# Altium footprint library MCU ICs.PcbLib: 12 footprints
Each footprint in its own frame and in the unit in brackets; x right, y up, seen from the top. Pads: shape width x height; smd on the part's side, far side on the other; paste and mask are expansions set on the pad; w line width, h text height; cw(c..) or ccw(c..) is an arc to the next point about the centre after c.
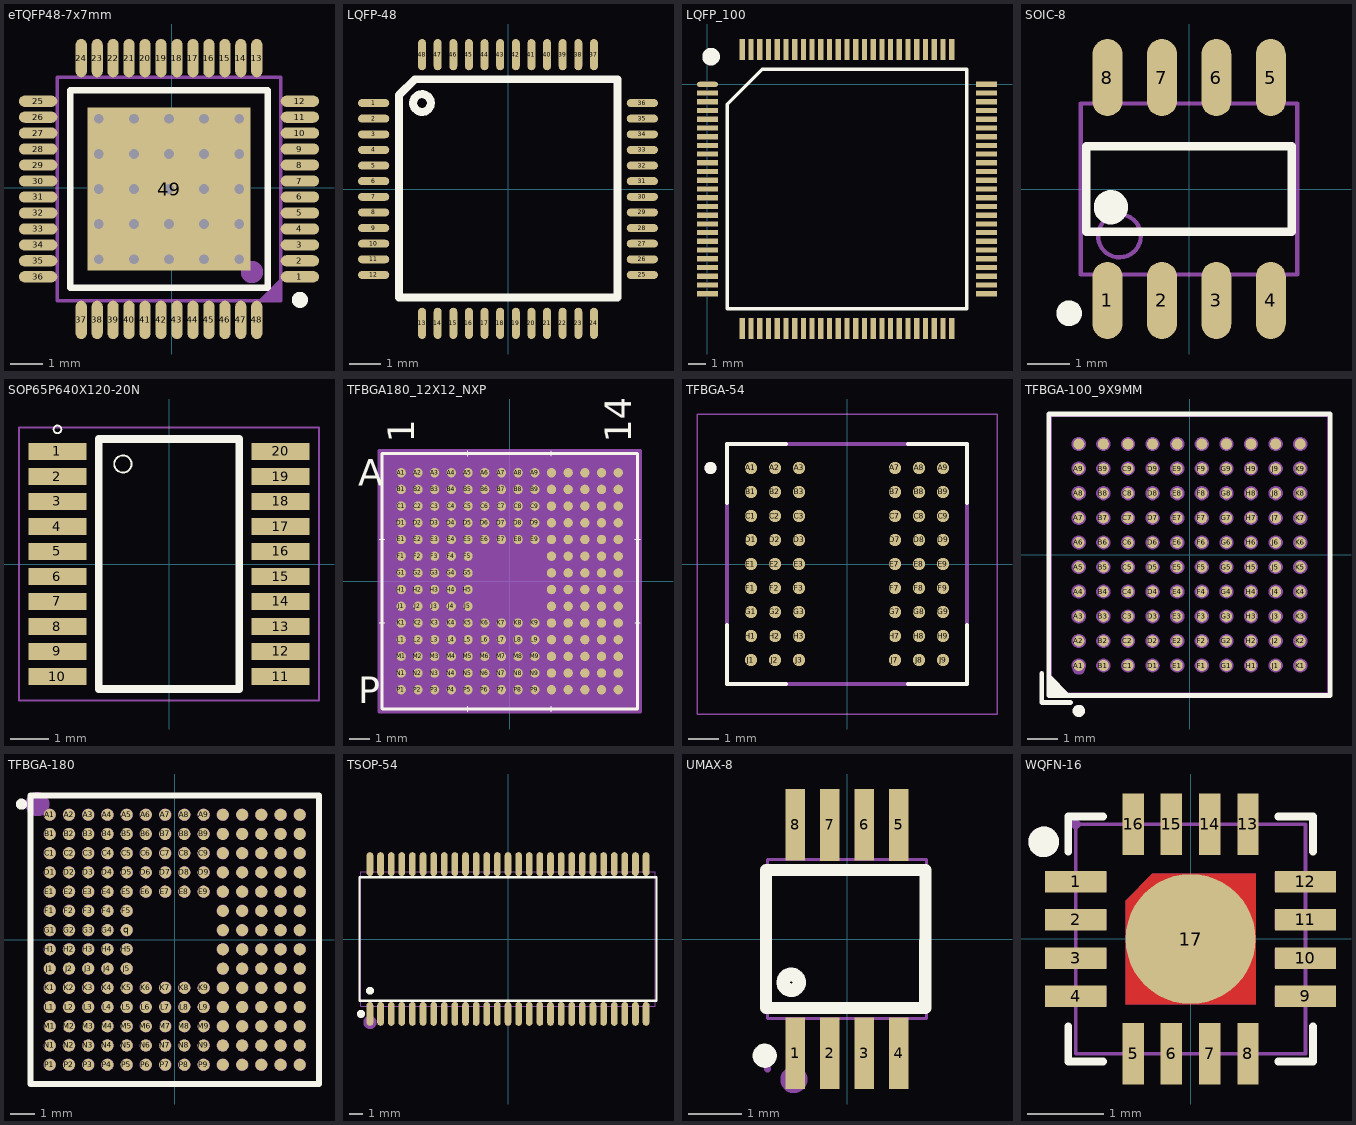
[diagram p0: the footprints below, top view; thin cyan lines are the x and y axes]

## eTQFP48-7x7mm [mm] "TSQFP, 48-Leads, Body 7,00x7,00mm, Pitch 0,50mm, Thermal Pad 5,10x5,10mm, IPC High Density"
height 1.2
pads (49):
  oval 1.2x0.35 smd mask+0.102: 1(4.016,-2.791) 2(4.016,-2.291) 3(4.016,-1.791) 4(4.016,-1.291) 5(4.016,-0.791) 6(4.016,-0.291) 7(4.016,0.209) 8(4.016,0.709) 9(4.016,1.209) 10(4.016,1.709) 11(4.016,2.209) 12(4.016,2.709) 25(-4.184,2.709) 26(-4.184,2.209) 27(-4.184,1.709) 28(-4.184,1.209) 29(-4.184,0.709) 30(-4.184,0.209) 31(-4.184,-0.291) 32(-4.184,-0.791) 33(-4.184,-1.291) 34(-4.184,-1.791) 35(-4.184,-2.291) 36(-4.184,-2.791)
  oval 0.35x1.2 smd mask+0.102: 13(2.666,4.059) 14(2.166,4.059) 15(1.666,4.059) 16(1.166,4.059) 17(0.666,4.059) 18(0.166,4.059) 19(-0.334,4.059) 20(-0.834,4.059) 21(-1.334,4.059) 22(-1.834,4.059) 23(-2.334,4.059) 24(-2.834,4.059) 37(-2.834,-4.141) 38(-2.334,-4.141) 39(-1.834,-4.141) 40(-1.334,-4.141) 41(-0.834,-4.141) 42(-0.334,-4.141) 43(0.166,-4.141) 44(0.666,-4.141) 45(1.166,-4.141) 46(1.666,-4.141) 47(2.166,-4.141) 48(2.666,-4.141)
  rect 5.1x5.1 smd: 49(-0.084,-0.041)
via -2.284,2.159 diameter 0.508 hole 0.305
via -1.184,2.159 diameter 0.508 hole 0.305
via -0.084,2.159 diameter 0.508 hole 0.305
via 1.016,2.159 diameter 0.508 hole 0.305
via 2.116,2.159 diameter 0.508 hole 0.305
via -2.284,1.059 diameter 0.508 hole 0.305
via -1.184,1.059 diameter 0.508 hole 0.305
via -0.084,1.059 diameter 0.508 hole 0.305
via 1.016,1.059 diameter 0.508 hole 0.305
via 2.116,1.059 diameter 0.508 hole 0.305
via -2.284,-0.041 diameter 0.508 hole 0.305
via -1.184,-0.041 diameter 0.508 hole 0.305
via -0.084,-0.041 diameter 0.508 hole 0.305
via 1.016,-0.041 diameter 0.508 hole 0.305
via 2.116,-0.041 diameter 0.508 hole 0.305
via -2.284,-1.141 diameter 0.508 hole 0.305
via -1.184,-1.141 diameter 0.508 hole 0.305
via -0.084,-1.141 diameter 0.508 hole 0.305
via 1.016,-1.141 diameter 0.508 hole 0.305
via 2.116,-1.141 diameter 0.508 hole 0.305
via -2.284,-2.241 diameter 0.508 hole 0.305
via -1.184,-2.241 diameter 0.508 hole 0.305
via -0.084,-2.241 diameter 0.508 hole 0.305
via 1.016,-2.241 diameter 0.508 hole 0.305
via 2.116,-2.241 diameter 0.508 hole 0.305
Top Overlay:
  circle w0.25: c4.016,-3.516 r0.125
  lines w0.2: -3.184,-3.141 3.016,-3.141 3.016,3.059 -3.184,3.059 -3.184,-3.141
Mechanical 29:
  circle w0.5: c2.516,-2.641 r0.1
  region: 2.71,-3.541 3.416,-2.835 3.416,-3.541
  lines w0.1: -3.584,-3.541 -3.584,3.459 3.416,3.459 3.416,-3.541 -3.584,-3.541
3D body "TSQFP50P900X900X120_HS-49L.step": height 1.2, standoff 0, extent -4.584,-4.541 4.416,4.459

## LQFP-48 [mm]
height 5.33
pads (48):
  oval 1x0.254 smd: 1(-4.3,2.75) 2(-4.3,2.25) 3(-4.3,1.75) 4(-4.3,1.25) 5(-4.3,0.75) 6(-4.3,0.25) 7(-4.3,-0.25) 8(-4.3,-0.75) 9(-4.3,-1.25) 10(-4.3,-1.75) 11(-4.3,-2.25) 12(-4.3,-2.75) 25(4.3,-2.75) 26(4.3,-2.25) 27(4.3,-1.75) 28(4.3,-1.25) 29(4.3,-0.75) 30(4.3,-0.25) 31(4.3,0.25) 32(4.3,0.75) 33(4.3,1.25) 34(4.3,1.75) 35(4.3,2.25) 36(4.3,2.75)
  oval 0.254x1 smd: 13(-2.75,-4.3) 14(-2.25,-4.3) 15(-1.75,-4.3) 16(-1.25,-4.3) 17(-0.75,-4.3) 18(-0.25,-4.3) 19(0.25,-4.3) 20(0.75,-4.3) 21(1.25,-4.3) 22(1.75,-4.3) 23(2.25,-4.3) 24(2.75,-4.3) 37(2.75,4.3) 38(2.25,4.3) 39(1.75,4.3) 40(1.25,4.3) 41(0.75,4.3) 42(0.25,4.3) 43(-0.25,4.3) 44(-0.75,4.3) 45(-1.25,4.3) 46(-1.75,4.3) 47(-2.25,4.3) 48(-2.75,4.3)
Top Overlay:
  circle w0.254: c-2.752,2.75 r0.284
  lines w0.254: -3.484,-3.473 3.501,-3.473 3.501,3.512 -2.976,3.512 -3.484,3.004 -3.484,-3.473
3D body "lqfp48.stp": height 1.5, standoff 0, extent -4.5,-4.489 4.5,4.511

## LQFP_100 [mm]
pads (100):
  oval 1.2x0.3 smd: 1(0,0)
  rect 1.2x0.3 smd: 2(0,-0.5) 3(0,-1) 4(0,-1.5) 5(0,-2) 6(0,-2.5) 7(0,-3) 8(0,-3.5) 9(0,-4) 10(0,-4.5) 11(0,-5) 12(0,-5.5) 13(0,-6) 14(0,-6.5) 15(0,-7) 16(0,-7.5) 17(0,-8) 18(0,-8.5) 19(0,-9) 20(0,-9.5) 21(0,-10) 22(0,-10.5) 23(0,-11) 24(0,-11.5) 25(0,-12) 51(16,-12) 52(16,-11.5) 53(16,-11) 54(16,-10.5) 55(16,-10) 56(16,-9.5) 57(16,-9) 58(16,-8.5) 59(16,-8) 60(16,-7.5) 61(16,-7) 62(16,-6.5) 63(16,-6) 64(16,-5.5) 65(16,-5) 66(16,-4.5) 67(16,-4) 68(16,-3.5) 69(16,-3) 70(16,-2.5) 71(16,-2) 72(16,-1.5) 73(16,-1) 74(16,-0.5) 75(16,0)
  rect 0.3x1.2 smd: 26(2,-14) 27(2.5,-14) 28(3,-14) 29(3.5,-14) 30(4,-14) 31(4.5,-14) 32(5,-14) 33(5.5,-14) 34(6,-14) 35(6.5,-14) 36(7,-14) 37(7.5,-14) 38(8,-14) 39(8.5,-14) 40(9,-14) 41(9.5,-14) 42(10,-14) 43(10.5,-14) 44(11,-14) 45(11.5,-14) 46(12,-14) 47(12.5,-14) 48(13,-14) 49(13.5,-14) 50(14,-14) 76(14,2) 77(13.5,2) 78(13,2) 79(12.5,2) 80(12,2) 81(11.5,2) 82(11,2) 83(10.5,2) 84(10,2) 85(9.5,2) 86(9,2) 87(8.5,2) 88(8,2) 89(7.5,2) 90(7,2) 91(6.5,2) 92(6,2) 93(5.5,2) 94(5,2) 95(4.5,2) 96(4,2) 97(3.5,2) 98(3,2) 99(2.5,2) 100(2,2)
Top Overlay:
  lines w0.2: 1.135,-12.865 14.865,-12.865 14.865,0.865 3.151,0.865 1.135,-1.151 1.135,-12.865
  lines w0.6: 0.025,1.676 ccw(c0.207,1.586) 0.031,1.686
3D body "LQFP100-14x14mm.step": height 1.6, standoff 0, extent 0.004,-13.966 15.998,2.028

## SOIC-8 [mm]
pads (8):
  oval 0.7x1.8 smd: 1(-1.905,-2.6) 2(-0.635,-2.6) 3(0.635,-2.6) 4(1.905,-2.6) 5(1.905,2.6) 6(0.635,2.6) 7(-0.635,2.6) 8(-1.905,2.6)
Top Overlay:
  circle w0.4: c-1.825,-0.425 r0.2
  circle w0.3: c-2.8,-2.9 r0.15
  lines w0.2: -2.4,-1 -2.4,1 2.4,1 2.4,-1 -2.4,-1
Mechanical 13:
  circle w0.1: c-1.625,-1.095 r0.5
  lines w0.1: -2.525,-1.995 -2.525,1.995 2.525,1.995 2.525,-1.995 -2.525,-1.995
3D body "SO-8N.STEP": height 1.62, standoff 0, extent -2.46,-3 2.46,3

## SOP65P640X120-20N [mm]
pads (20):
  rect 1.5x0.45 smd: 1(-2.9,2.925) 2(-2.9,2.275) 3(-2.9,1.625) 4(-2.9,0.975) 5(-2.9,0.325) 6(-2.9,-0.325) 7(-2.9,-0.975) 8(-2.9,-1.625) 9(-2.9,-2.275) 10(-2.9,-2.925) 11(2.9,-2.925) 12(2.9,-2.275) 13(2.9,-1.625) 14(2.9,-0.975) 15(2.9,-0.325) 16(2.9,0.325) 17(2.9,0.975) 18(2.9,1.625) 19(2.9,2.275) 20(2.9,2.925)
Top Overlay:
  circle w0.05: c-2.9,3.5 r0.1
  circle w0.05: c-1.2,2.6 r0.224
  circle w0.05: c-1.2,2.6 r0.224
  lines w0.2: -1.825,-3.25 -1.825,3.25 1.825,3.25 1.825,-3.25 -1.825,-3.25
Mechanical 15:
  lines w0.05: -3.9,-3.55 -3.9,3.55 3.9,3.55 3.9,-3.55 -3.9,-3.55
3D body "STM8S103F3P3.STEP": height 1.16, standoff -0.04, extent -3.327,-3.25 3.073,3.25

## TFBGA180_12X12_NXP [mm]
pads (180):
  round 0.45 smd paste-0.025 mask+0.013: A1(-5.2,5.2) A2(-4.4,5.2) A3(-3.6,5.2) A4(-2.8,5.2) A5(-2,5.2) A6(-1.2,5.2) A7(-0.4,5.2) A8(0.4,5.2) A9(1.2,5.2) A10(2,5.2) A11(2.8,5.2) A12(3.6,5.2) A13(4.4,5.2) A14(5.2,5.2) B1(-5.2,4.4) B2(-4.4,4.4) B3(-3.6,4.4) B4(-2.8,4.4) B5(-2,4.4) B6(-1.2,4.4) B7(-0.4,4.4) B8(0.4,4.4) B9(1.2,4.4) B10(2,4.4) B11(2.8,4.4) B12(3.6,4.4) B13(4.4,4.4) B14(5.2,4.4) C1(-5.2,3.6) C2(-4.4,3.6) C3(-3.6,3.6) C4(-2.8,3.6) C5(-2,3.6) C6(-1.2,3.6) C7(-0.4,3.6) C8(0.4,3.6) C9(1.2,3.6) C10(2,3.6) C11(2.8,3.6) C12(3.6,3.6) C13(4.4,3.6) C14(5.2,3.6) D1(-5.2,2.8) D2(-4.4,2.8) D3(-3.6,2.8) D4(-2.8,2.8) D5(-2,2.8) D6(-1.2,2.8) D7(-0.4,2.8) D8(0.4,2.8) D9(1.2,2.8) D10(2,2.8) D11(2.8,2.8) D12(3.6,2.8) D13(4.4,2.8) D14(5.2,2.8) E1(-5.2,2) E2(-4.4,2) E3(-3.6,2) E4(-2.8,2) E5(-2,2) E6(-1.2,2) E7(-0.4,2) E8(0.4,2) E9(1.2,2) E10(2,2) E11(2.8,2) E12(3.6,2) E13(4.4,2) E14(5.2,2) F1(-5.2,1.2) F2(-4.4,1.2) F3(-3.6,1.2) F4(-2.8,1.2) F5(-2,1.2) F10(2,1.2) F11(2.8,1.2) F12(3.6,1.2) F13(4.4,1.2) F14(5.2,1.2) G1(-5.2,0.4) G2(-4.4,0.4) G3(-3.6,0.4) G4(-2.8,0.4) G5(-2,0.4) G10(2,0.4) G11(2.8,0.4) G12(3.6,0.4) G13(4.4,0.4) G14(5.2,0.4) H1(-5.2,-0.4) H2(-4.4,-0.4) H3(-3.6,-0.4) H4(-2.8,-0.4) H5(-2,-0.4) H10(2,-0.4) H11(2.8,-0.4) H12(3.6,-0.4) H13(4.4,-0.4) H14(5.2,-0.4) J1(-5.2,-1.2) J2(-4.4,-1.2) J3(-3.6,-1.2) J4(-2.8,-1.2) J5(-2,-1.2) J10(2,-1.2) J11(2.8,-1.2) J12(3.6,-1.2) J13(4.4,-1.2) J14(5.2,-1.2) K1(-5.2,-2) K2(-4.4,-2) K3(-3.6,-2) K4(-2.8,-2) K5(-2,-2) K6(-1.2,-2) K7(-0.4,-2) K8(0.4,-2) K9(1.2,-2) K10(2,-2) K11(2.8,-2) K12(3.6,-2) K13(4.4,-2) K14(5.2,-2) L1(-5.2,-2.8) L2(-4.4,-2.8) L3(-3.6,-2.8) L4(-2.8,-2.8) L5(-2,-2.8) L6(-1.2,-2.8) L7(-0.4,-2.8) L8(0.4,-2.8) L9(1.2,-2.8) L10(2,-2.8) L11(2.8,-2.8) L12(3.6,-2.8) L13(4.4,-2.8) L14(5.2,-2.8) M1(-5.2,-3.6) M2(-4.4,-3.6) M3(-3.6,-3.6) M4(-2.8,-3.6) M5(-2,-3.6) M6(-1.2,-3.6) M7(-0.4,-3.6) M8(0.4,-3.6) M9(1.2,-3.6) M10(2,-3.6) M11(2.8,-3.6) M12(3.6,-3.6) M13(4.4,-3.6) M14(5.2,-3.6) N1(-5.2,-4.4) N2(-4.4,-4.4) N3(-3.6,-4.4) N4(-2.8,-4.4) N5(-2,-4.4) N6(-1.2,-4.4) N7(-0.4,-4.4) N8(0.4,-4.4) N9(1.2,-4.4) N10(2,-4.4) N11(2.8,-4.4) N12(3.6,-4.4) N13(4.4,-4.4) N14(5.2,-4.4) P1(-5.2,-5.2) P2(-4.4,-5.2) P3(-3.6,-5.2) P4(-2.8,-5.2) P5(-2,-5.2) P6(-1.2,-5.2) P7(-0.4,-5.2) P8(0.4,-5.2) P9(1.2,-5.2) P10(2,-5.2) P11(2.8,-5.2) P12(3.6,-5.2) P13(4.4,-5.2) P14(5.2,-5.2)
Top Overlay:
  lines w0.025: -6.254,-2 -6,-2 ; -6.254,2 -6,2 ; -2,-6.254 -2,-6 ; -2,6 -2,6.254 ; 2,-6.254 2,-6 ; 2,6 2,6.254 ; 6,-2 6.254,-2 ; 6,2 6.254,2
  lines w0.152: -6.127,-6.127 -6.127,6.127 6.127,6.127 6.127,-6.127 -6.127,-6.127
  text "14" at 5.835,6.635 h1.27
  text "1" at -4.565,6.635 h1.27
  text "P" at -7.27,-5.835 h1.27
  text "A" at -7.27,4.565 h1.27
Bottom Overlay:
  text "14" at 4.565,6.635 h1.27
  text "1" at -5.835,6.635 h1.27
  text "A" at -6.635,4.565 h1.27
  text "P" at -6.635,-5.835 h1.27
Mechanical 13:
  lines w0.025: -6,5.6 -5.6,6 ; -6,-6 -6,6 6,6 6,-6 -6,-6
  text "14" at 5.835,6.635 h1.27
  text "1" at -4.565,6.635 h1.27
  text "P" at -7.27,-5.835 h1.27
  text "A" at -7.27,4.565 h1.27
Mechanical 15:
  region: 6.254,-6.254 -6.254,-6.254 -6.254,6.254 6.254,6.254
  lines w0.152: -6.254,-6.254 6.254,-6.254 6.254,6.254 -6.254,6.254 -6.254,-6.254
3D body "TFBGA180_12X12_NXP.step": height 1.2, standoff 0, extent -6,-6 6,6

## TFBGA-54 [mm]
height 1.2
pads (54):
  round 0.41 smd: A1(-3.2,3.2) A2(-2.4,3.2) A3(-1.6,3.2) A7(1.6,3.2) A8(2.4,3.2) A9(3.2,3.2) B1(-3.2,2.4) B2(-2.4,2.4) B3(-1.6,2.4) B7(1.6,2.4) B8(2.4,2.4) B9(3.2,2.4) C1(-3.2,1.6) C2(-2.4,1.6) C3(-1.6,1.6) C7(1.6,1.6) C8(2.4,1.6) C9(3.2,1.6) D1(-3.2,0.8) D2(-2.4,0.8) D3(-1.6,0.8) D7(1.6,0.8) D8(2.4,0.8) D9(3.2,0.8) E1(-3.2,0) E2(-2.4,0) E3(-1.6,0) E7(1.6,0) E8(2.4,0) E9(3.2,0) F1(-3.2,-0.8) F2(-2.4,-0.8) F3(-1.6,-0.8) F7(1.6,-0.8) F8(2.4,-0.8) F9(3.2,-0.8) G1(-3.2,-1.6) G2(-2.4,-1.6) G3(-1.6,-1.6) G7(1.6,-1.6) G8(2.4,-1.6) G9(3.2,-1.6) H1(-3.2,-2.4) H2(-2.4,-2.4) H3(-1.6,-2.4) H7(1.6,-2.4) H8(2.4,-2.4) H9(3.2,-2.4) J1(-3.2,-3.2) J2(-2.4,-3.2) J3(-1.6,-3.2) J7(1.6,-3.2) J8(2.4,-3.2) J9(3.2,-3.2)
Top Overlay:
  circle w0.2: c-4.55,3.2 r0.1
  lines w0.127: -4,-2.025 -4,-4 -2.025,-4 ; -4,2.025 -4,4 -2.025,4 ; 2.025,-4 4,-4 4,-2.025 ; 2.025,4 4,4 4,2.025
Mechanical 13:
  circle w0.2: c-4.55,3.2 r0.1
  lines w0.127: -4,-4 -4,4 4,4 4,-4 -4,-4
Mechanical 15:
  lines w0.05: -5,-5 -5,5 5,5 5,-5 -5,-5
3D body "step_temp.STEP": height 1.2, standoff 0, extent -4,-4 4,4

## TFBGA-100_9X9MM [mm]
pads (100):
  round 0.36 smd paste-100 mask+0.051: A1(-3.6,-3.6) A2(-3.6,-2.8) A3(-3.6,-2) A4(-3.6,-1.2) A5(-3.6,-0.4) A6(-3.6,0.4) A7(-3.6,1.2) A8(-3.6,2) A9(-3.6,2.8) A10(-3.6,3.6) B1(-2.8,-3.6) B2(-2.8,-2.8) B3(-2.8,-2) B4(-2.8,-1.2) B5(-2.8,-0.4) B6(-2.8,0.4) B7(-2.8,1.2) B8(-2.8,2) B9(-2.8,2.8) B10(-2.8,3.6) C1(-2,-3.6) C2(-2,-2.8) C3(-2,-2) C4(-2,-1.2) C5(-2,-0.4) C6(-2,0.4) C7(-2,1.2) C8(-2,2) C9(-2,2.8) C10(-2,3.6) D1(-1.2,-3.6) D2(-1.2,-2.8) D3(-1.2,-2) D4(-1.2,-1.2) D5(-1.2,-0.4) D6(-1.2,0.4) D7(-1.2,1.2) D8(-1.2,2) D9(-1.2,2.8) D10(-1.2,3.6) E1(-0.4,-3.6) E2(-0.4,-2.8) E3(-0.4,-2) E4(-0.4,-1.2) E5(-0.4,-0.4) E6(-0.4,0.4) E7(-0.4,1.2) E8(-0.4,2) E9(-0.4,2.8) E10(-0.4,3.6) F1(0.4,-3.6) F2(0.4,-2.8) F3(0.4,-2) F4(0.4,-1.2) F5(0.4,-0.4) F6(0.4,0.4) F7(0.4,1.2) F8(0.4,2) F9(0.4,2.8) F10(0.4,3.6) G1(1.2,-3.6) G2(1.2,-2.8) G3(1.2,-2) G4(1.2,-1.2) G5(1.2,-0.4) G6(1.2,0.4) G7(1.2,1.2) G8(1.2,2) G9(1.2,2.8) G10(1.2,3.6) H1(2,-3.6) H2(2,-2.8) H3(2,-2) H4(2,-1.2) H5(2,-0.4) H6(2,0.4) H7(2,1.2) H8(2,2) H9(2,2.8) H10(2,3.6) J1(2.8,-3.6) J2(2.8,-2.8) J3(2.8,-2) J4(2.8,-1.2) J5(2.8,-0.4) J6(2.8,0.4) J7(2.8,1.2) J8(2.8,2) J9(2.8,2.8) J10(2.8,3.6) K1(3.6,-3.6) K2(3.6,-2.8) K3(3.6,-2) K4(3.6,-1.2) K5(3.6,-0.4) K6(3.6,0.4) K7(3.6,1.2) K8(3.6,2) K9(3.6,2.8) K10(3.6,3.6)
Top Overlay:
  circle w0.2: c-3.6,-5.076 r0.1
  region: -4.576,-4.576 -3.856,-4.576 -4.576,-3.856
  lines w0.152: -4.805,-3.856 -4.805,-4.805 -3.856,-4.805 ; -4.576,-4.576 4.576,-4.576 4.576,4.576 -4.576,4.576 -4.576,-4.576
Top Paste:
  drawing of 100 lines, arcs and shapes, not listed
Mechanical 6:
  circle w0.2: c-3.6,-3.7 r0.1
  region: -4.576,-4.576 -3.856,-4.576 -4.576,-3.856
Mechanical 15:
  drawing of 105 lines, arcs and shapes, not listed
3D body "TFBGA-100.STEP": height 0.63, standoff 0, extent -4.5,-4.5 4.5,4.5

## TFBGA-180 [mm]
pads (180):
  round 0.5 smd: A1(-5.2,5.2) A2(-4.4,5.2) A3(-3.6,5.2) A4(-2.8,5.2) A5(-2,5.2) A6(-1.2,5.2) A7(-0.4,5.2) A8(0.4,5.2) A9(1.2,5.2) A10(2,5.2) A11(2.8,5.2) A12(3.6,5.2) A13(4.4,5.2) A14(5.2,5.2) B1(-5.2,4.4) B2(-4.4,4.4) B3(-3.6,4.4) B4(-2.8,4.4) B5(-2,4.4) B6(-1.2,4.4) B7(-0.4,4.4) B8(0.4,4.4) B9(1.2,4.4) B10(2,4.4) B11(2.8,4.4) B12(3.6,4.4) B13(4.4,4.4) B14(5.2,4.4) C1(-5.2,3.6) C2(-4.4,3.6) C3(-3.6,3.6) C4(-2.8,3.6) C5(-2,3.6) C6(-1.2,3.6) C7(-0.4,3.6) C8(0.4,3.6) C9(1.2,3.6) C10(2,3.6) C11(2.8,3.6) C12(3.6,3.6) C13(4.4,3.6) C14(5.2,3.6) D1(-5.2,2.8) D2(-4.4,2.8) D3(-3.6,2.8) D4(-2.8,2.8) D5(-2,2.8) D6(-1.2,2.8) D7(-0.4,2.8) D8(0.4,2.8) D9(1.2,2.8) D10(2,2.8) D11(2.8,2.8) D12(3.6,2.8) D13(4.4,2.8) D14(5.2,2.8) E1(-5.2,2) E2(-4.4,2) E3(-3.6,2) E4(-2.8,2) E5(-2,2) E6(-1.2,2) E7(-0.4,2) E8(0.4,2) E9(1.2,2) E10(2,2) E11(2.8,2) E12(3.6,2) E13(4.4,2) E14(5.2,2) F1(-5.2,1.2) F2(-4.4,1.2) F3(-3.6,1.2) F4(-2.8,1.2) F5(-2,1.2) F10(2,1.2) F11(2.8,1.2) F12(3.6,1.2) F13(4.4,1.2) F14(5.2,1.2) G1(-5.2,0.4) G2(-4.4,0.4) G3(-3.6,0.4) G4(-2.8,0.4) G10(2,0.4) G11(2.8,0.4) G12(3.6,0.4) G13(4.4,0.4) G14(5.2,0.4) H1(-5.2,-0.4) H2(-4.4,-0.4) H3(-3.6,-0.4) H4(-2.8,-0.4) H5(-2,-0.4) H10(2,-0.4) H11(2.8,-0.4) H12(3.6,-0.4) H13(4.4,-0.4) H14(5.2,-0.4) J1(-5.2,-1.2) J2(-4.4,-1.2) J3(-3.6,-1.2) J4(-2.8,-1.2) J5(-2,-1.2) J10(2,-1.2) J11(2.8,-1.2) J12(3.6,-1.2) J13(4.4,-1.2) J14(5.2,-1.2) K1(-5.2,-2) K2(-4.4,-2) K3(-3.6,-2) K4(-2.8,-2) K5(-2,-2) K6(-1.2,-2) K7(-0.4,-2) K8(0.4,-2) K9(1.2,-2) K10(2,-2) K11(2.8,-2) K12(3.6,-2) K13(4.4,-2) K14(5.2,-2) L1(-5.2,-2.8) L2(-4.4,-2.8) L3(-3.6,-2.8) L4(-2.8,-2.8) L5(-2,-2.8) L6(-1.2,-2.8) L7(-0.4,-2.8) L8(0.4,-2.8) L9(1.2,-2.8) L10(2,-2.8) L11(2.8,-2.8) L12(3.6,-2.8) L13(4.4,-2.8) L14(5.2,-2.8) M1(-5.2,-3.6) M2(-4.4,-3.6) M3(-3.6,-3.6) M4(-2.8,-3.6) M5(-2,-3.6) M6(-1.2,-3.6) M7(-0.4,-3.6) M8(0.4,-3.6) M9(1.2,-3.6) M10(2,-3.6) M11(2.8,-3.6) M12(3.6,-3.6) M13(4.4,-3.6) M14(5.2,-3.6) N1(-5.2,-4.4) N2(-4.4,-4.4) N3(-3.6,-4.4) N4(-2.8,-4.4) N5(-2,-4.4) N6(-1.2,-4.4) N7(-0.4,-4.4) N8(0.4,-4.4) N9(1.2,-4.4) N10(2,-4.4) N11(2.8,-4.4) N12(3.6,-4.4) N13(4.4,-4.4) N14(5.2,-4.4) P1(-5.2,-5.2) P2(-4.4,-5.2) P3(-3.6,-5.2) P4(-2.8,-5.2) P5(-2,-5.2) P6(-1.2,-5.2) P7(-0.4,-5.2) P8(0.4,-5.2) P9(1.2,-5.2) P10(2,-5.2) P11(2.8,-5.2) P12(3.6,-5.2) P13(4.4,-5.2) P14(5.2,-5.2) q(-2,0.4)
Top Overlay:
  circle w0.254: c-6.375,5.639 r0.105
  lines w0.254: -6,-6 -6,6 6,6 6,-6 -6,-6
Mechanical 6:
  circle w0.5: c-5.715,5.639 r0.25
Mechanical 15:
  drawing of 185 lines, arcs and shapes, not listed
3D body "TFBGA180_12X12_NXP.step": height 1.2, standoff 0, extent -6,-6 6,6

## TSOP-54 [mm]
pads (54):
  oval 0.5x1.8 smd: 1(-10.4,-5.642) 2(-9.6,-5.642) 3(-8.8,-5.642) 4(-8,-5.642) 5(-7.2,-5.642) 6(-6.4,-5.642) 7(-5.6,-5.642) 8(-4.8,-5.642) 9(-4,-5.642) 10(-3.2,-5.642) 11(-2.4,-5.642) 12(-1.6,-5.642) 13(-0.8,-5.642) 14(0,-5.642) 15(0.8,-5.642) 16(1.6,-5.642) 17(2.4,-5.642) 18(3.2,-5.642) 19(4,-5.642) 20(4.8,-5.642) 21(5.6,-5.642) 22(6.4,-5.642) 23(7.2,-5.642) 24(8,-5.642) 25(8.8,-5.642) 26(9.6,-5.642) 27(10.4,-5.642) 28(10.4,5.642) 29(9.6,5.642) 30(8.8,5.642) 31(8,5.642) 32(7.2,5.642) 33(6.4,5.642) 34(5.6,5.642) 35(4.8,5.642) 36(4,5.642) 37(3.2,5.642) 38(2.4,5.642) 39(1.6,5.642) 40(0.8,5.642) 41(0,5.642) 42(-0.8,5.642) 43(-1.6,5.642) 44(-2.4,5.642) 45(-3.2,5.642) 46(-4,5.642) 47(-4.8,5.642) 48(-5.6,5.642) 49(-6.4,5.642) 50(-7.2,5.642) 51(-8,5.642) 52(-8.8,5.642) 53(-9.6,5.642) 54(-10.4,5.642)
Top Overlay:
  circle w0.3: c-11.076,-5.642 r0.15
  circle w0.3: c-10.4,-3.899 r0.15
  lines w0.152: -11.186,-4.651 11.186,-4.651 11.186,4.651 -11.186,4.651 -11.186,-4.651
Mechanical 6:
  circle w0.5: c-10.4,-6.28 r0.25
Mechanical 15:
  drawing of 113 lines, arcs and shapes, not listed
3D body "TSOP54_PIN_Package_Code_T.STEP": height 1.2, standoff -0.04, extent -11.25,-5.88 11.25,5.713

## UMAX-8 [mm]
pads (8):
  rect 0.36x1.35 smd: 1(-0.975,-2.15) 2(-0.325,-2.152) 3(0.325,-2.151) 4(0.975,-2.152) 5(0.975,2.149) 6(0.325,2.152) 7(-0.325,2.149) 8(-0.975,2.152)
Top Overlay:
  circle w0.254: c-1.55,-2.2 r0.1
  circle w0.254: c-1.052,-0.817 r0.15
  lines w0.229: -1.524,-1.301 0.976,-1.301 1.476,-1.301 1.476,1.299 -1.524,1.299 -1.524,-0.551 -1.524,-1.301
Mechanical 6:
  circle w0.254: c-1,-2.65 r0.127
Mechanical 15:
  region: -1.128,-2.45 -1.128,-1.915 -0.823,-1.915 -0.823,-2.45
  region: -1.128,-1.925 -1.128,-1.49 -0.823,-1.49 -0.823,-1.925
  region: -1.128,1.915 -1.128,2.45 -0.823,2.45 -0.823,1.915
  region: -1.128,1.49 -1.128,1.925 -0.823,1.925 -0.823,1.49
  region: -0.477,-2.45 -0.477,-1.915 -0.172,-1.915 -0.172,-2.45
  region: -0.477,-1.925 -0.477,-1.49 -0.172,-1.49 -0.172,-1.925
  region: -0.477,1.915 -0.477,2.45 -0.172,2.45 -0.172,1.915
  region: -0.477,1.49 -0.477,1.925 -0.172,1.925 -0.172,1.49
  region: 0.173,-2.45 0.173,-1.915 0.478,-1.915 0.478,-2.45
  region: 0.173,-1.925 0.173,-1.49 0.478,-1.49 0.478,-1.925
  region: 0.172,1.915 0.172,2.45 0.477,2.45 0.477,1.915
  region: 0.172,1.49 0.172,1.925 0.477,1.925 0.477,1.49
  region: 0.823,-2.45 0.823,-1.915 1.128,-1.915 1.128,-2.45
  region: 0.823,-1.925 0.823,-1.49 1.128,-1.49 1.128,-1.925
  region: 0.823,1.915 0.823,2.45 1.128,2.45 1.128,1.915
  region: 0.823,1.49 0.823,1.925 1.128,1.925 1.128,1.49
  region: -1.44,-2.45 -1.441,-2.426 -1.475,-2.391 -1.524,-2.391 -1.559,-2.425 -1.56,-2.45 -1.559,-2.474 -1.525,-2.509 -1.476,-2.509 -1.441,-2.475
  lines w0.051: -1.5,-1.5 -1.5,1.5 1.5,1.5 1.5,-1.5 -1.5,-1.5
3D body "umax8 v0.step": height 1, standoff 0, extent -1.5,-2.601 1.5,2.399

## WQFN-16 [mm]
pads (17):
  rect 0.8x0.28 smd paste-100 mask+0.051: 1(-1.5,0.75) 2(-1.5,0.25) 3(-1.5,-0.25) 4(-1.5,-0.75) 9(1.5,-0.75) 10(1.5,-0.25) 11(1.5,0.25) 12(1.5,0.75)
  rect 0.28x0.8 smd paste-100 mask+0.051: 5(-0.75,-1.5) 6(-0.25,-1.5) 7(0.25,-1.5) 8(0.75,-1.5) 13(0.75,1.5) 14(0.25,1.5) 15(-0.25,1.5) 16(-0.75,1.5)
  round 1.7 smd: 17(0,0)
Top Layer:
  region: 0.85,0.85 0.85,-0.85 -0.85,-0.85 -0.85,0.5 -0.5,0.85
Top Overlay:
  circle w0.2: c-1.92,1.27 r0.1
  lines w0.102: -1.6,-1.144 -1.6,-1.6 -1.144,-1.6 ; -1.6,1.144 -1.6,1.6 -1.144,1.6 ; 1.144,-1.6 1.6,-1.6 1.6,-1.144 ; 1.144,1.6 1.6,1.6 1.6,1.144
Top Paste:
  region: -0.89,1.9 -0.89,1.1 -0.61,1.1 -0.61,1.9
  region: 0.39,1.1 0.39,1.9 0.11,1.9 0.11,1.1
  region: -0.39,1.9 -0.39,1.1 -0.11,1.1 -0.11,1.9
  region: 0.89,1.1 0.89,1.9 0.61,1.9 0.61,1.1
  region: -1.1,0.61 -1.1,0.89 -1.9,0.89 -1.9,0.61
  region: 1.1,0.89 1.1,0.61 1.9,0.61 1.9,0.89
  region: -1.1,0.11 -1.1,0.39 -1.9,0.39 -1.9,0.11
  region: 1.9,0.11 1.9,0.39 1.1,0.39 1.1,0.11
  region: -1.1,-0.39 -1.1,-0.11 -1.9,-0.11 -1.9,-0.39
  region: 1.9,-0.39 1.9,-0.11 1.1,-0.11 1.1,-0.39
  region: -1.1,-0.89 -1.1,-0.61 -1.9,-0.61 -1.9,-0.89
  region: 1.9,-0.89 1.9,-0.61 1.1,-0.61 1.1,-0.89
  region: -0.89,-1.1 -0.89,-1.9 -0.61,-1.9 -0.61,-1.1
  region: -0.11,-1.9 -0.11,-1.1 -0.39,-1.1 -0.39,-1.9
  region: 0.39,-1.9 0.39,-1.1 0.11,-1.1 0.11,-1.9
  region: 0.89,-1.9 0.89,-1.1 0.61,-1.1 0.61,-1.9
  region: 0.68,0.68 0.68,-0.68 -0.68,-0.68 -0.68,0.4 -0.4,0.68
Mechanical 6:
  circle w0.2: c-1.92,1.27 r0.1
Mechanical 15:
  region: -1.44,1.5 -1.441,1.524 -1.476,1.558 -1.524,1.558 -1.559,1.524 -1.56,1.5 -1.559,1.476 -1.524,1.442 -1.476,1.442 -1.441,1.476
  region: 1.1,-0.875 1.1,-0.625 1.5,-0.625 1.5,-0.875
  region: 1.1,-0.375 1.1,-0.125 1.5,-0.125 1.5,-0.375
  region: 1.1,0.125 1.1,0.375 1.5,0.375 1.5,0.125
  region: 1.1,0.625 1.1,0.875 1.5,0.875 1.5,0.625
  region: -0.625,1.1 -0.875,1.1 -0.875,1.5 -0.625,1.5
  region: -0.125,1.1 -0.375,1.1 -0.375,1.5 -0.125,1.5
  region: 0.375,1.1 0.125,1.1 0.125,1.5 0.375,1.5
  region: 0.875,1.1 0.625,1.1 0.625,1.5 0.875,1.5
  region: -1.1,-0.625 -1.1,-0.875 -1.5,-0.875 -1.5,-0.625
  region: -1.1,-0.125 -1.1,-0.375 -1.5,-0.375 -1.5,-0.125
  region: -1.1,0.375 -1.1,0.125 -1.5,0.125 -1.5,0.375
  region: -1.1,0.875 -1.1,0.625 -1.5,0.625 -1.5,0.875
  region: -0.875,-1.1 -0.625,-1.1 -0.625,-1.5 -0.875,-1.5
  region: 0.85,0.85 0.85,-0.85 -0.85,-0.85 -0.85,0.5 -0.5,0.85
  region: -0.375,-1.1 -0.125,-1.1 -0.125,-1.5 -0.375,-1.5
  region: 0.125,-1.1 0.375,-1.1 0.375,-1.5 0.125,-1.5
  region: 0.625,-1.1 0.875,-1.1 0.875,-1.5 0.625,-1.5
  lines w0.051: -1.5,-1.5 -1.5,1.5 1.5,1.5 1.5,-1.5 -1.5,-1.5
3D body "User Library-QFN-16_3x3.STEP": height 0.9, standoff 0, extent -1.524,-1.521 1.518,1.521